# Altium footprint library FMC_SDR_XFE.PcbLib: 41 footprints (part 2 of 3)
Each footprint in its own frame and in the unit in brackets; x right, y up, seen from the top. Pads: shape width x height; smd on the part's side, far side on the other; paste and mask are expansions set on the pad; w line width, h text height; cw(c..) or ccw(c..) is an arc to the next point about the centre after c.
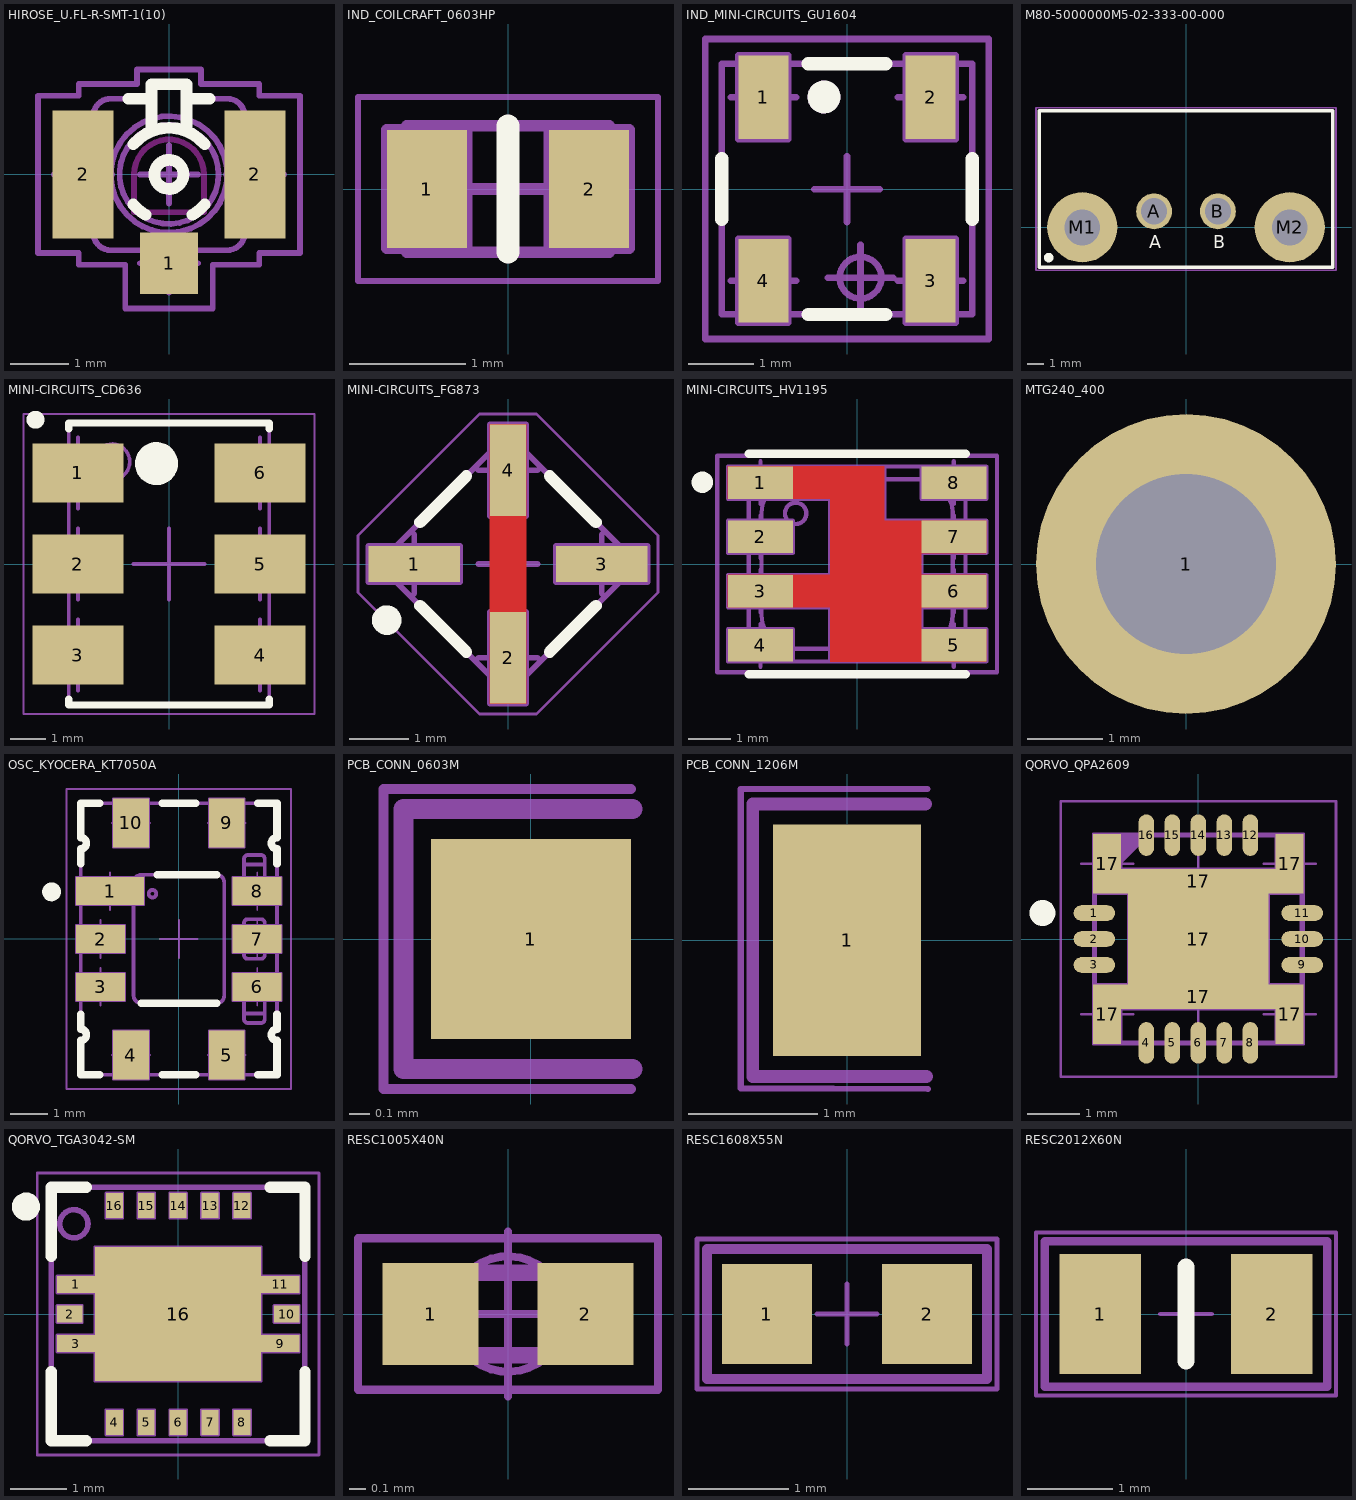
[diagram p1: the footprints below, top view; thin cyan lines are the x and y axes]

## HIROSE_U.FL-R-SMT-1(10) [mm] "Up to 6GHz Ultra Small Surface Mount Male Coaxial Connectors U.FL Series"
height 1.25
pads (3):
  rect 1x1.05 smd: 1(0,-1.525)
  rect 1.05x2.2 smd: 2(-1.475,0) 2(1.475,0)
Top Layer keep-out:
  lines w0.1: -0.6,-0.65 -0.6,0 cw(c0,0) 0.6,0 0.6,-0.65 -0.6,-0.65
Top Overlay:
  circle w0.2: c0,0 r0.25
  lines w0.2: -0.7,1.3 -0.3,1.3 ; -0.612,-0.516 ccw(c0,0) -0.397,-0.695 ; -0.612,0.516 cw(c0,0) 0.612,0.516 ; -0.3,0.75 -0.3,1.55 0.3,1.55 0.3,0.75 ; 0.3,1.3 0.7,1.3 ; 0.397,-0.695 ccw(c0,0) 0.612,-0.516
Mechanical 8:
  lines w0.1: -1.975,0 -1.475,0 ; -1.475,-0.5 -1.475,0 ; -1.475,0.5 -1.475,0 ; -0.975,0 -1.475,0 ; -0.5,-1.525 0,-1.525 ; -0.5,0 0,0 ; 0,-2.025 0,-1.525 ; 0,-1.025 0,-1.525 ; 0,-0.5 0,0 ; 0,0.5 0,0 ; 0.5,-1.525 0,-1.525 ; 0.5,0 0,0 ; 0.975,0 1.475,0 ; 1.475,-0.5 1.475,0 ; 1.475,0.5 1.475,0 ; 1.975,0 1.475,0
Mechanical 14:
  circle w0.1: c0,0 r0.25
  circle w0.1: c0,0 r0.85
  circle w0.1: c0,0 r1
  lines w0.1: -1.3,-0.9 -1.5,-0.9 -1.5,0.9 -1.3,0.9 ; -0.3,-1.3 -0.3,-1.55 0.3,-1.55 0.3,-1.3 ; -0.3,0.954 -0.3,1.55 0.3,1.55 0.3,0.954 ; -0.3,1.3 -1,1.3 ccw(c-1,1) -1.3,1 -1.3,-1 ccw(c-1,-1) -1,-1.3 1,-1.3 ccw(c1,-1) 1.3,-1 1.3,1 ccw(c1,1) 1,1.3 0.3,1.3 ; 1.3,-0.9 1.5,-0.9 1.5,0.9 1.3,0.9
Mechanical 15:
  lines w0.1: 0.75,1.55 1.55,1.55 ; 1.55,1.55 1.55,1.35 2.25,1.35 2.25,-1.35 1.55,-1.35 1.55,-1.55 0.75,-1.55 0.75,-2.3 -0.75,-2.3 -0.75,-1.55 -1.55,-1.55 -1.55,-1.35 -2.25,-1.35 -2.25,1.35 -1.55,1.35 -1.55,1.55 -0.55,1.55 -0.55,1.8 0.55,1.8 0.55,1.55 1.55,1.55
3D body "HIROSE_U.FL-R-SMT-1(10).stp": height 1.25, standoff 0, extent -1.5,-1.55 1.5,1.55

## IND_COILCRAFT_0603HP [mm] "Chip Inductor, Body Width 1.09mm Body Lenght 1.75mm Height 0.94mm"
height 0.94
pads (2):
  rect 0.69x1.02 smd: 1(-0.7,0) 2(0.7,0)
Top Overlay:
  lines w0.2: 0,-0.545 0,0.545
Mechanical 8:
  lines w0.1: -0.5,0 0,0 ; 0,-0.5 0,0 ; 0,0.5 0,0 ; 0.5,0 0,0 ; -1.045,-0.51 -0.7,0 -1.045,0.51 ; -1.045,-0.51 -0.355,-0.51 -0.355,0.51 -1.045,0.51 ; -1.045,-0.51 -1.045,0.51 ; 1.045,-0.51 0.7,0 1.045,0.51 ; 1.045,-0.51 1.045,0.51 ; 1.045,-0.51 0.355,-0.51 0.355,0.51 1.045,0.51
Mechanical 14:
  lines w0.1: -0.875,-0.545 -0.875,0.545 0.875,0.545 0.875,-0.545 -0.875,-0.545
Mechanical 15:
  lines w0.05: -1.295,-0.795 -1.295,0.795 1.295,0.795 1.295,-0.795 -1.295,-0.795
3D body "IND_COILCRAFT_0603HP.stp": height 0.93, standoff -0.01, extent -0.875,-0.545 0.875,0.545

## IND_MINI-CIRCUITS_GU1604 [mm] "MINI-CIRCUITS RF Choke, Case GU1041 - Body 3.81X3.81mm"
height 3.81
pads (4):
  rect 0.76x1.27 smd: 1(-1.27,1.394) 2(1.27,1.396) 3(1.27,-1.394) 4(-1.27,-1.396)
Top Overlay:
  circle w0.25: c-0.35,1.4 r0.125
  lines w0.2: -1.905,-0.459 -1.905,0.461 ; -0.59,-1.905 0.59,-1.905 ; -0.59,1.905 0.59,1.905 ; 1.905,-0.459 1.905,0.461
Mechanical 8:
  circle w0.1: c0.205,-1.347 r0.318
  lines w0.1: -1.77,-1.396 -1.27,-1.396 ; -1.77,1.394 -1.27,1.394 ; -1.27,-1.896 -1.27,-1.396 ; -1.27,-0.896 -1.27,-1.396 ; -1.27,0.894 -1.27,1.394 ; -1.27,1.894 -1.27,1.394 ; -0.77,-1.396 -1.27,-1.396 ; -0.77,1.394 -1.27,1.394 ; -0.295,-1.347 0.205,-1.347 ; 0.205,-1.847 0.205,-1.347 ; 0.205,-0.847 0.205,-1.347 ; 0.705,-1.347 0.205,-1.347 ; 0.77,-1.394 1.27,-1.394 ; 0.77,1.396 1.27,1.396 ; 1.27,-1.894 1.27,-1.394 ; 1.27,-0.894 1.27,-1.394 ; 1.27,0.896 1.27,1.396 ; 1.27,1.896 1.27,1.396 ; 1.77,-1.394 1.27,-1.394 ; 1.77,1.396 1.27,1.396 ; 0,0 0,0.5 0,0 ; 0,0 0.5,0 0,0 ; 0,0 0,-0.5 0,0 ; 0,0 -0.5,0 0,0 ; -1.65,-2.029 -1.65,-0.759 -0.89,-0.759 -0.89,-2.029 -1.65,-2.029 ; -1.65,0.761 -1.65,2.031 -0.89,2.031 -0.89,0.761 -1.65,0.761 ; 0.89,-2.029 0.89,-0.759 1.65,-0.759 1.65,-2.029 0.89,-2.029 ; 0.89,0.761 0.89,2.031 1.65,2.031 1.65,0.761 0.89,0.761
Mechanical 14:
  circle w0.1: c-0.35,1.4 r0.2
  lines w0.1: -1.905,-1.905 -1.905,1.905 1.905,1.905 1.905,-1.905 -1.905,-1.905
Mechanical 15:
  lines w0.1: -2.155,-2.279 -2.155,2.281 2.155,2.281 2.155,-2.279 -2.155,-2.279
3D body "IND_MINI-CIRCUITS_GU1604.stp": height 3.81, standoff 0, extent -1.905,-1.905 1.905,1.905

## M80-5000000M5-02-333-00-000 [mm] "2pin (2 power), THT socket with M2 jackscrews (H=6.05mm, W=18mm, D=8.6mm)"
height 6.05
pads (4):
  round 2.25 hole 1.65: A(-2,1) B(2,1)
  round 4.4 hole 2.25: M1(-6.5,0) M2(6.5,0)
Top Overlay:
  circle w0.3: c-8.6,-1.9 r0.15
  lines w0.2: -9.2,-2.5 -9.2,7.3 9.2,7.3 9.2,-2.5 -9.2,-2.5
  text "B" at 1.7,-1.3 h0.8
  text "A" at -2.3,-1.3 h0.8
Mechanical38:
  lines w0.1: -9.4,-2.7 9.4,-2.7
Mechanical39:
  lines w0.1: -9.4,7.5 9.4,7.5
Mechanical40:
  lines w0.1: 9.4,-2.7 9.4,7.5
Mechanical41:
  lines w0.1: -9.4,-2.7 -9.4,7.5
3D body "m80-5000000m5-02-333-00-000_asm.stp": height 6.08, standoff -4.67, extent -9,-2 9,7.1

## MINI-CIRCUITS_CD636 [mm] "MINI-CIRCUITS CD636 Case, 2.54mm pitch; 6 pin, 5.59mm W X 7.87mm L"
height 4.11
pads (6):
  rect 2.54x1.65 smd: 1(-2.54,2.54) 2(-2.54,0) 3(-2.54,-2.54) 4(2.54,-2.54) 5(2.54,0) 6(2.54,2.54)
Top Overlay:
  circle w0.25: c-3.725,4.025 r0.125
  circle w0.6: c-0.35,2.8 r0.3
  lines w0.2: -2.795,-3.765 -2.795,-3.935 2.795,-3.935 2.795,-3.765 ; -2.795,3.765 -2.795,3.935 2.795,3.935 2.795,3.765
Mechanical 8:
  lines w0.1: -3.54,-2.54 -2.54,-2.54 ; -3.54,0 -2.54,0 ; -3.54,2.54 -2.54,2.54 ; -2.54,-3.54 -2.54,-2.54 ; -2.54,-1.54 -2.54,-2.54 ; -2.54,-1 -2.54,0 ; -2.54,1 -2.54,0 ; -2.54,1.54 -2.54,2.54 ; -2.54,3.54 -2.54,2.54 ; -1.54,-2.54 -2.54,-2.54 ; -1.54,0 -2.54,0 ; -1.54,2.54 -2.54,2.54 ; -1,0 0,0 ; 0,-1 0,0 ; 0,1 0,0 ; 1,0 0,0 ; 1.54,-2.54 2.54,-2.54 ; 1.54,0 2.54,0 ; 1.54,2.54 2.54,2.54 ; 2.54,-3.54 2.54,-2.54 ; 2.54,-1.54 2.54,-2.54 ; 2.54,-1 2.54,0 ; 2.54,1 2.54,0 ; 2.54,1.54 2.54,2.54 ; 2.54,3.54 2.54,2.54 ; 3.54,-2.54 2.54,-2.54 ; 3.54,0 2.54,0 ; 3.54,2.54 2.54,2.54
Mechanical 14:
  circle w0.1: c-1.595,2.85 r0.5
  lines w0.1: -2.795,-3.935 -2.795,3.935 2.795,3.935 2.795,-3.935 -2.795,-3.935
Mechanical 15:
  lines w0.05: -0.5,0 0.5,0 ; 0,-0.5 0,0.5 ; -4.06,-4.185 4.06,-4.185 4.06,4.185 -4.06,4.185 -4.06,-4.185
3D body "MINI-CIRCUITS_CD636.stp": height 4.11, standoff 0, extent -3.455,-3.935 3.455,3.935

## MINI-CIRCUITS_FG873 [mm] "MINI-CIRCUITS FG873 Case, 4 pin, 3.0mm W X 3.0mm L"
height 0.89
pads (4):
  rect 1.55x0.61 smd: 1(-1.585,0) 3(1.585,0)
  rect 0.61x1.55 smd: 2(0,-1.585) 4(0,1.585)
Top Layer:
  region: -0.305,2.36 -0.305,-2.36 0.305,-2.36 0.305,2.36
Top Overlay:
  circle w0.25: c-2.05,-0.95 r0.125
  lines w0.2: -1.487,-0.705 -0.705,-1.487 ; -1.487,0.705 -0.705,1.487 ; 0.705,-1.487 1.487,-0.705 ; 0.705,1.487 1.487,0.705
Mechanical 8:
  lines w0.1: -2.085,0 -1.585,0 ; -1.585,-0.5 -1.585,0 ; -1.585,0.5 -1.585,0 ; -1.085,0 -1.585,0 ; -0.5,-1.585 0,-1.585 ; -0.5,0 0,0 ; -0.5,1.585 0,1.585 ; 0,-2.085 0,-1.585 ; 0,-1.085 0,-1.585 ; 0,-0.5 0,0 ; 0,0.5 0,0 ; 0,1.085 0,1.585 ; 0,2.085 0,1.585 ; 0.5,-1.585 0,-1.585 ; 0.5,0 0,0 ; 0.5,1.585 0,1.585 ; 1.085,0 1.585,0 ; 1.585,-0.5 1.585,0 ; 1.585,0.5 1.585,0 ; 2.085,0 1.585,0 ; -2.36,-0.305 -2.36,0.305 -0.81,0.305 -0.81,-0.305 -2.36,-0.305 ; -0.305,-2.36 0.305,-2.36 0.305,-0.81 -0.305,-0.81 -0.305,-2.36 ; -0.305,0.81 0.305,0.81 0.305,2.36 -0.305,2.36 -0.305,0.81 ; 0.81,-0.305 0.81,0.305 2.36,0.305 2.36,-0.305 0.81,-0.305
Mechanical 14:
  lines w0.1: -2.192,0 0,-2.192 2.192,0 0,2.192 -2.192,0
Mechanical 15:
  lines w0.05: -2.537,-0.482 -0.482,-2.537 0.482,-2.537 2.537,-0.482 2.537,0.482 0.482,2.537 -0.482,2.537 -2.537,0.482 -2.537,-0.482
3D body "MINI-CIRCUITS_FG873.stp": height 0.89, standoff 0, extent -2.171,-2.171 2.171,2.171

## MINI-CIRCUITS_HV1195 [mm] "MINI-CIRCUITS HV1195 Case, 1.27mm pitch; 8 pin, 4.57mm W X 5.08mm L"
height 2.21
pads (8):
  rect 1.52x0.76 smd: 1(-2.265,1.905) 2(-2.265,0.635) 3(-2.265,-0.635) 4(-2.265,-1.905) 5(2.265,-1.905) 6(2.265,-0.635) 7(2.265,0.635) 8(2.265,1.905)
Top Layer:
  region: -0.635,-2.285 -0.635,-1.015 -3.025,-1.015 -3.025,-0.255 -0.635,-0.255 -0.635,1.525 -3.025,1.525 -3.025,2.285 0.635,2.285 0.635,1.015 3.025,1.015 3.025,0.255 1.505,0.255 1.505,-0.255 3.025,-0.255 3.025,-1.015 1.505,-1.015 1.505,-1.525 3.025,-1.525 3.025,-2.285
Top Overlay:
  circle w0.25: c-3.625,1.915 r0.125
  lines w0.2: -2.54,-2.585 2.54,-2.585 ; -2.54,2.586 2.54,2.585
Mechanical 8:
  lines w0.1: -2.765,-1.905 -2.265,-1.905 ; -2.765,-0.635 -2.265,-0.635 ; -2.765,0.635 -2.265,0.635 ; -2.765,1.905 -2.265,1.905 ; -2.265,-2.405 -2.265,-1.905 ; -2.265,-1.405 -2.265,-1.905 ; -2.265,-1.135 -2.265,-0.635 ; -2.265,-0.135 -2.265,-0.635 ; -2.265,0.135 -2.265,0.635 ; -2.265,1.135 -2.265,0.635 ; -2.265,1.405 -2.265,1.905 ; -2.265,2.405 -2.265,1.905 ; -1.765,-1.905 -2.265,-1.905 ; -1.765,-0.635 -2.265,-0.635 ; -1.765,0.635 -2.265,0.635 ; -1.765,1.905 -2.265,1.905 ; -0.5,0 0,0 ; 0,-0.5 0,0 ; 0,0.5 0,0 ; 0.5,0 0,0 ; 1.765,-1.905 2.265,-1.905 ; 1.765,-0.635 2.265,-0.635 ; 1.765,0.635 2.265,0.635 ; 1.765,1.905 2.265,1.905 ; 2.265,-2.405 2.265,-1.905 ; 2.265,-1.405 2.265,-1.905 ; 2.265,-1.135 2.265,-0.635 ; 2.265,-0.135 2.265,-0.635 ; 2.265,0.135 2.265,0.635 ; 2.265,1.135 2.265,0.635 ; 2.265,1.405 2.265,1.905 ; 2.265,2.405 2.265,1.905 ; 2.765,-1.905 2.265,-1.905 ; 2.765,-0.635 2.265,-0.635 ; 2.765,0.635 2.265,0.635 ; 2.765,1.905 2.265,1.905 ; -3.025,-2.285 -1.505,-2.285 -1.505,-1.525 -3.025,-1.525 -3.025,-2.285 ; -3.025,-1.015 -0.635,-1.015 -0.635,-2.285 3.025,-2.285 3.025,-1.525 1.505,-1.525 1.505,-1.015 3.025,-1.015 3.025,-0.255 1.505,-0.255 1.505,0.255 3.025,0.255 3.025,1.015 0.635,1.015 0.635,2.285 -3.025,2.285 -3.025,1.525 -0.635,1.525 -0.635,-0.255 -3.025,-0.255 -3.025,-1.015 ; -3.025,0.255 -1.505,0.255 -1.505,1.015 -3.025,1.015 -3.025,0.255 ; 1.505,1.525 3.025,1.525 3.025,2.285 1.505,2.285 1.505,1.525
Mechanical 14:
  circle w0.1: c-1.44,1.185 r0.25
  lines w0.1: -2.54,-2.285 -2.54,2.285 2.54,2.285 2.54,-2.285 -2.54,-2.285 ; -2.24,-1.185 ccw(c-1.44,-1.185) -1.44,-1.985 1.44,-1.985 ccw(c1.44,-1.185) 2.24,-1.185 2.24,1.185 ccw(c1.44,1.185) 1.44,1.985 -1.44,1.985 ccw(c-1.44,1.185) -2.24,1.185 -2.24,-1.185
Mechanical 15:
  lines w0.1: -3.275,-2.535 3.275,-2.535 3.275,2.534 -3.275,2.535 -3.275,-2.535
3D body "MINI-CIRCUITS_HV1195.stp": height 2.21, standoff 0, extent -2.54,-2.285 2.54,2.285

## MTG240_400 [mm] "Plated Through Hole: Hole Dia.=2.4mm Pad Dia.=4.0mm"
height 6.05
pads (1):
  round 4 hole 2.4: 1(0,0)

## OSC_KYOCERA_KT7050A [mm] "Oscillator KT7050A Series, 10 pins, 5x7mm"
height 1.7
pads (10):
  rect 1.8x0.75 smd: 1(-1.825,1.27)
  rect 1.3x0.75 smd: 2(-2.075,0) 3(-2.075,-1.27) 6(2.075,-1.27) 7(2.075,0) 8(2.075,1.27)
  rect 0.95x1.3 smd: 4(-1.27,-3.075) 5(1.27,-3.075) 9(1.27,3.075) 10(-1.27,3.075)
Top Overlay:
  circle w0.25: c-3.375,1.25 r0.125
  lines w0.2: -2.6,-1.995 -2.6,-2.39 cw(c-2.6,-2.54) -2.6,-2.69 -2.6,-3.6 -2.095,-3.6 ; -2.6,1.995 -2.6,2.39 ccw(c-2.6,2.54) -2.6,2.69 -2.6,3.6 -2.095,3.6 ; -1,-1.7 1,-1.7 ; -0.575,1.7 1,1.7 ; -0.445,-3.6 0.445,-3.6 ; -0.445,3.6 0.445,3.6 ; 2.095,-3.6 2.6,-3.6 2.6,-2.69 cw(c2.6,-2.54) 2.6,-2.39 2.6,-1.995 ; 2.095,3.6 2.6,3.6 2.6,2.69 ccw(c2.6,2.54) 2.6,2.39 2.6,1.995
Mechanical 8:
  lines w0.05: -2.575,-1.27 -2.075,-1.27 ; -2.575,0 -2.075,0 ; -2.325,1.27 -1.825,1.27 ; -2.075,-1.77 -2.075,-1.27 ; -2.075,-0.77 -2.075,-1.27 ; -2.075,-0.5 -2.075,0 ; -2.075,0.5 -2.075,0 ; -1.825,0.77 -1.825,1.27 ; -1.825,1.77 -1.825,1.27 ; -1.77,-3.075 -1.27,-3.075 ; -1.77,3.075 -1.27,3.075 ; -1.575,-1.27 -2.075,-1.27 ; -1.575,0 -2.075,0 ; -1.325,1.27 -1.825,1.27 ; -1.27,-3.575 -1.27,-3.075 ; -1.27,-2.575 -1.27,-3.075 ; -1.27,2.575 -1.27,3.075 ; -1.27,3.575 -1.27,3.075 ; -0.77,-3.075 -1.27,-3.075 ; -0.77,3.075 -1.27,3.075 ; -0.5,0 0,0 ; 0,-0.5 0,0 ; 0,0.5 0,0 ; 0.5,0 0,0 ; 0.77,-3.075 1.27,-3.075 ; 0.77,3.075 1.27,3.075 ; 1.27,-3.575 1.27,-3.075 ; 1.27,-2.575 1.27,-3.075 ; 1.27,2.575 1.27,3.075 ; 1.27,3.575 1.27,3.075 ; 1.575,-1.27 2.075,-1.27 ; 1.575,0 2.075,0 ; 1.575,1.27 2.075,1.27 ; 1.77,-3.075 1.27,-3.075 ; 1.77,3.075 1.27,3.075 ; 2.075,-1.77 2.075,-1.27 ; 2.075,-0.77 2.075,-1.27 ; 2.075,-0.5 2.075,0 ; 2.075,0.5 2.075,0 ; 2.075,0.77 2.075,1.27 ; 2.075,1.77 2.075,1.27 ; 2.575,-1.27 2.075,-1.27 ; 2.575,0 2.075,0 ; 2.575,1.27 2.075,1.27 ; -2.725,-1.645 -2.725,-0.895 -1.425,-0.895 -1.425,-1.645 -2.725,-1.645 ; -2.725,-0.375 -2.725,0.375 -1.425,0.375 -1.425,-0.375 -2.725,-0.375 ; -2.725,0.895 -2.725,1.645 -0.925,1.645 -0.925,0.895 -2.725,0.895 ; -1.745,-3.725 -1.745,-2.425 -0.795,-2.425 -0.795,-3.725 -1.745,-3.725 ; -1.745,2.425 -1.745,3.725 -0.795,3.725 -0.795,2.425 -1.745,2.425 ; 0.795,-3.725 0.795,-2.425 1.745,-2.425 1.745,-3.725 0.795,-3.725 ; 0.795,2.425 1.745,2.425 1.745,3.725 0.795,3.725 0.795,2.425 ; 1.425,-1.645 2.725,-1.645 2.725,-0.895 1.425,-0.895 1.425,-1.645 ; 1.425,-0.375 2.725,-0.375 2.725,0.375 1.425,0.375 1.425,-0.375 ; 1.425,0.895 2.725,0.895 2.725,1.645 1.425,1.645 1.425,0.895
Mechanical 14:
  circle w0.1: c-0.7,1.2 r0.1
  lines w0.1: 1.725,-1.975 2.275,-1.975 ; 1.725,-1.425 2.275,-1.425 ; 1.725,-0.275 2.275,-0.275 ; 1.725,0.275 2.275,0.275 ; 1.725,1.425 2.275,1.425 ; 1.725,1.975 2.275,1.975 ; -2.6,-3.6 -2.6,-2.69 ccw(c-2.6,-2.54) -2.6,-2.39 -2.6,-1.42 ccw(c-2.6,-1.27) -2.6,-1.12 -2.6,-0.15 ccw(c-2.6,0) -2.6,0.15 -2.6,1.12 ccw(c-2.6,1.27) -2.6,1.42 -2.6,2.39 ccw(c-2.6,2.54) -2.6,2.69 -2.6,3.6 -1.42,3.6 ccw(c-1.27,3.6) -1.12,3.6 1.12,3.6 ccw(c1.27,3.6) 1.42,3.6 2.6,3.6 2.6,2.69 ccw(c2.6,2.54) 2.6,2.39 2.6,1.42 ccw(c2.6,1.27) 2.6,1.12 2.6,0.15 ccw(c2.6,0) 2.6,-0.15 2.6,-1.12 ccw(c2.6,-1.27) 2.6,-1.42 2.6,-2.39 ccw(c2.6,-2.54) 2.6,-2.69 2.6,-3.6 1.42,-3.6 ccw(c1.27,-3.6) 1.12,-3.6 -1.12,-3.6 ccw(c-1.27,-3.6) -1.42,-3.6 -2.6,-3.6 ; -1.2,-1.5 ccw(c-1,-1.5) -1,-1.7 1,-1.7 ccw(c1,-1.5) 1.2,-1.5 1.2,1.5 ccw(c1,1.5) 1,1.7 -1,1.7 ccw(c-1,1.5) -1.2,1.5 -1.2,-1.5 ; 1.725,-2.125 ccw(c1.825,-2.125) 1.825,-2.225 2.175,-2.225 ccw(c2.175,-2.125) 2.275,-2.125 2.275,-1.275 ccw(c2.175,-1.275) 2.175,-1.175 1.825,-1.175 ccw(c1.825,-1.275) 1.725,-1.275 1.725,-2.125 ; 1.725,-0.425 ccw(c1.825,-0.425) 1.825,-0.525 2.175,-0.525 ccw(c2.175,-0.425) 2.275,-0.425 2.275,0.425 ccw(c2.175,0.425) 2.175,0.525 1.825,0.525 ccw(c1.825,0.425) 1.725,0.425 1.725,-0.425 ; 1.725,1.275 ccw(c1.825,1.275) 1.825,1.175 2.175,1.175 ccw(c2.175,1.275) 2.275,1.275 2.275,2.125 ccw(c2.175,2.125) 2.175,2.225 1.825,2.225 ccw(c1.825,2.125) 1.725,2.125 1.725,1.275
Mechanical 15:
  lines w0.05: -2.975,-3.975 2.975,-3.975 2.975,3.975 -2.975,3.975 -2.975,-3.975
3D body "OSC_KYOCERA_KT7050A.stp": height 1.7, standoff 0, extent -2.6,-3.6 2.6,3.6

## PCB_CONN_0603M [mm] "Colder connection between boards - by 0603 0R jumper"
height 7
pads (1):
  rect 1x1 smd: 1(0,0)
Mechanical 14:
  lines w0.1: 0.508,-0.65 -0.638,-0.65 -0.638,0.65 0.508,0.65
Mechanical34:
  lines w0.05: -0.738,-0.75 0.5,-0.75
Mechanical35:
  lines w0.05: -0.738,0.75 0.5,0.75
Mechanical37:
  lines w0.05: -0.738,-0.75 -0.738,0.75
3D body "RESC1608X55N.stp": height 0.55, standoff 0, extent 0.141,-0.475 1.891,0.475

## PCB_CONN_1206M [mm] "Colder connection between boards - by 1206 0R jumper"
height 7
pads (1):
  rect 1.15x1.8 smd: 1(0,0)
Mechanical 14:
  lines w0.1: 0.609,1.058 -0.732,1.058 -0.732,-1.059 0.619,-1.059
Mechanical34:
  lines w0.05: -0.825,-1.15 0.628,-1.156
Mechanical35:
  lines w0.05: -0.825,1.175 0.625,1.175
Mechanical37:
  lines w0.05: -0.825,-1.15 -0.825,1.175
3D body "RESC3216X65N.stp": height 0.65, standoff 0, extent -0.225,-0.875 3.125,0.875

## QORVO_QPA2609 [mm] "QFN, 0.50mm Pitch, Square; 16 Pin, 4.00mm L X 4.00mm W X 0.9mm H Body (w/thermal Tab 2.75 X 2.75mm)"
height 0.9
pads (23):
  oval 0.8x0.3 smd: 1(-2,0.5) 2(-2,0) 3(-2,-0.5) 9(2,-0.5) 10(2,0) 11(2,0.5)
  oval 0.3x0.8 smd: 4(-1,-2) 5(-0.5,-2) 6(0,-2) 7(0.5,-2) 8(1,-2) 12(1,2) 13(0.5,2) 14(0,2) 15(-0.5,2) 16(-1,2)
  rect 0.537x1.15 smd: 17(-1.756,-1.45) 17(-1.756,1.45) 17(1.756,-1.45) 17(1.756,1.45)
  rect 2.976x0.475 smd: 17(0,-1.112) 17(0,1.112)
  rect 2.7x1.75 smd: 17(0,0)
Top Overlay:
  circle w0.25: c-3,0.5 r0.125
Mechanical 8:
  lines w0.05: -2.257,-1.45 -1.756,-1.45 ; -2.257,1.45 -1.756,1.45 ; -1.756,-1.95 -1.756,-1.45 ; -1.756,-0.95 -1.756,-1.45 ; -1.756,0.95 -1.756,1.45 ; -1.756,1.95 -1.756,1.45 ; -1.256,-1.45 -1.756,-1.45 ; -1.256,1.45 -1.756,1.45 ; -0.5,-1.112 0,-1.112 ; -0.5,0 0,0 ; -0.5,1.112 0,1.112 ; 0,-1.613 0,-1.112 ; 0,-0.613 0,-1.112 ; 0,-0.5 0,0 ; 0,0.5 0,0 ; 0,0.613 0,1.112 ; 0,1.613 0,1.112 ; 0.5,-1.112 0,-1.112 ; 0.5,0 0,0 ; 0.5,1.112 0,1.112 ; 1.256,-1.45 1.756,-1.45 ; 1.256,1.45 1.756,1.45 ; 1.488,0.875 1.488,1.35 ; 1.756,-1.95 1.756,-1.45 ; 1.756,-0.95 1.756,-1.45 ; 1.756,0.95 1.756,1.45 ; 1.756,1.95 1.756,1.45 ; 2.257,-1.45 1.756,-1.45 ; 2.257,1.45 1.756,1.45 ; 1.488,1.35 -1.488,1.35 -1.488,2.025 -2.025,2.025 -2.025,0.875 -1.35,0.875 -1.35,-0.875 -2.025,-0.875 -2.025,-2.025 -1.488,-2.025 -1.488,-1.35 1.488,-1.35 1.488,-2.025 2.025,-2.025 2.025,-0.875 1.35,-0.875 1.35,0.875 2.025,0.875 2.025,2.025 1.488,2.025 1.488,1.35
Mechanical 14:
  lines w0.1: -2,1 -1,2 ; -2,1.1 -1.1,2 ; -2,1.2 -1.2,2 ; -2,1.3 -1.3,2 ; -2,1.4 -1.4,2 ; -2,1.5 -1.5,2 ; -2,1.6 -1.6,2 ; -2,1.7 -1.7,2 ; -2,1.8 -1.8,2 ; -2,1.9 -1.9,2 ; -2,-2 2,-2 2,2 -2,2 -2,-2
Mechanical 15:
  circle w0.05: c0,0 r0.35
  lines w0.05: -0.5,0 0.5,0 ; 0,-0.5 0,0.5 ; -2.65,-2.65 2.65,-2.65 2.65,2.65 -2.65,2.65 -2.65,-2.65
3D body "QORVO_QPA2609.stp": height 0.9, standoff 0, extent -2.025,-2.025 2.025,2.025

## QORVO_TGA3042-SM [mm] "QFN, 0.566mm Pitch X, 0.525 Pitch Y, Square; 16 Pin, 4.5mm L X 4.5mm W X 1.74mm H Body"
height 1.91
pads (17):
  rect 0.675x0.3 smd: 1(-1.813,0.525) 3(-1.813,-0.525) 9(1.813,-0.525) 11(1.813,0.525)
  rect 0.45x0.3 smd: 2(-1.925,0) 10(1.925,0)
  rect 0.3x0.45 smd: 4(-1.132,-1.925) 5(-0.566,-1.925) 6(0,-1.925) 7(0.566,-1.925) 8(1.132,-1.925) 12(1.132,1.925) 13(0.566,1.925) 14(0,1.925) 15(-0.566,1.925) 16(-1.132,1.925)
  rect 2.95x2.384 smd: 16(0,0)
Top Overlay:
  circle w0.25: c-2.699,1.905 r0.125
  lines w0.2: -2.25,-1.025 -2.25,-2.25 -1.632,-2.25 ; -2.25,1.025 -2.25,2.25 -1.632,2.25 ; 1.632,-2.25 2.25,-2.25 2.25,-1.025 ; 1.632,2.25 2.25,2.25 2.25,1.025
Mechanical 8:
  drawing of 233 lines, arcs and shapes, not listed
Mechanical 14:
  circle w0.1: c-1.85,1.6 r0.25
  lines w0.1: -2.25,-2.25 -2.25,2.25 ; -2.25,-2.25 2.25,-2.25 ; -2.25,-2.25 -2.25,2.25 ; -2.25,-2.25 2.25,-2.25 ; -2.25,2.25 2.25,2.25 ; -2.25,2.25 2.25,2.25 ; 2.25,-2.25 2.25,2.25 ; 2.25,-2.25 2.25,2.25
Mechanical 15:
  lines w0.05: -2.5,-2.5 -2.5,2.5 2.5,2.5 2.5,-2.5 -2.5,-2.5
3D body "QORVO_TGA3042-SM.stp": height 1.91, standoff 0, extent -2.25,-2.25 2.25,2.25

## RESC1005X40N [mm] "Chip Resistor, EIA 0402, Metric 1005, Body 1.0x0.5mm, IPC Medium Density"
height 0.4
pads (2):
  rect 0.58x0.62 smd: 1(-0.47,0) 2(0.47,0)
Mechanical 14:
  lines w0.1: -0.5,-0.25 0.5,-0.25 0.5,0.25 -0.5,0.25 -0.5,-0.25
Mechanical 15:
  circle w0.05: c0,0 r0.35
  lines w0.05: -0.5,0 0.5,0 ; 0,-0.5 0,0.5 ; -0.91,-0.46 0.91,-0.46 0.91,0.46 -0.91,0.46 -0.91,-0.46
3D body "RESC1005X40N.stp": height 0.4, standoff 0, extent -0.525,-0.275 0.525,0.275

## RESC1608X55N [mm] "Chip Resistor, EIA 0603, Metric 1608, Body 1.6x0.8mm, IPC Medium Density"
height 0.55
pads (2):
  rect 0.9x1 smd: 1(-0.8,0) 2(0.8,0)
Mechanical 14:
  lines w0.1: -1.4,-0.65 1.4,-0.65 1.4,0.65 -1.4,0.65 -1.4,-0.65
Mechanical 15:
  lines w0.05: -0.3,0 0.3,0 ; 0,-0.3 0,0.3 ; -1.5,-0.75 -1.5,0.75 1.5,0.75 1.5,-0.75 -1.5,-0.75
3D body "RESC1608X55N.stp": height 0.55, standoff 0, extent -0.875,-0.475 0.875,0.475

## RESC2012X60N [mm] "Chip Resistor, EIA 0805, Metric 2012, Body 2.0x1.2mm, IPC Medium Density"
height 0.6
pads (2):
  rect 0.95x1.4 smd: 1(-1,0) 2(1,0)
Top Overlay:
  lines w0.2: 0,-0.55 0,0.55
Mechanical 14:
  lines w0.1: -1.65,-0.85 -1.65,0.85 1.65,0.85 1.65,-0.85 -1.65,-0.85
Mechanical 15:
  lines w0.05: -0.3,0 0.3,0 ; 0,-0.3 0,0.3 ; -1.75,-0.95 1.75,-0.95 1.75,0.95 -1.75,0.95 -1.75,-0.95
3D body "RESC2012X60N.stp": height 0.6, standoff 0, extent -1.1,-0.675 1.1,0.675